# EAGLE library part 40_PINS_687340124422 (library WallerLabLib)
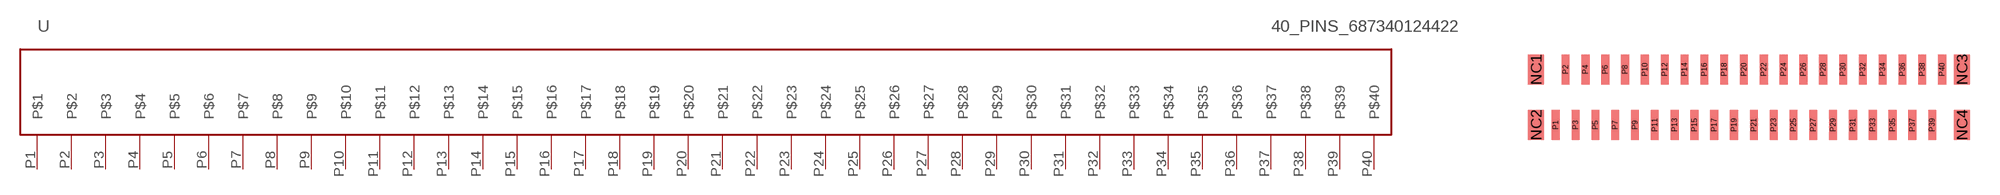
[diagram p13: symbol with the pads of 40PIN_FFC_687340124422; footprint 40PIN_FFC_687340124422]

Designator prefix -

## 40_PINS_687340124422V0  [40PIN_FFC_687340124422]
P1  P$1
P2  P$2
P3  P$3
P4  P$4
P5  P$5
P6  P$6
P7  P$7
P8  P$8
P9  P$9
P10  P$10
P11  P$11
P12  P$12
P13  P$13
P14  P$14
P15  P$15
P16  P$16
P17  P$17
P18  P$18
P19  P$19
P20  P$20
P21  P$21
P22  P$22
P23  P$23
P24  P$24
P25  P$25
P26  P$26
P27  P$27
P28  P$28
P29  P$29
P30  P$30
P31  P$31
P32  P$32
P33  P$33
P34  P$34
P35  P$35
P36  P$36
P37  P$37
P38  P$38
P39  P$39
P40  P$40

## Footprint 40PIN_FFC_687340124422 (pad centres in mm)
smd 0.8 x 1.5: NC1 -10.75,1.4; NC2 -10.75,-1.4; NC3 10.75,1.4; NC4 10.75,-1.4
smd 0.4 x 1.5: P1 -9.75,-1.4; P2 -9.25,1.4; P3 -8.75,-1.4; P4 -8.25,1.4; P5 -7.75,-1.4; P6 -7.25,1.4; P7 -6.75,-1.4; P8 -6.25,1.4; P9 -5.75,-1.4; P10 -5.25,1.4; P11 -4.75,-1.4; P12 -4.25,1.4; P13 -3.75,-1.4; P14 -3.25,1.4; P15 -2.75,-1.4; P16 -2.25,1.4; P17 -1.75,-1.4; P18 -1.25,1.4; P19 -0.75,-1.4; P20 -0.25,1.4; P21 0.25,-1.4; P22 0.75,1.4; P23 1.25,-1.4; P24 1.75,1.4; P25 2.25,-1.4; P26 2.75,1.4; P27 3.25,-1.4; P28 3.75,1.4; P29 4.25,-1.4; P30 4.75,1.4; P31 5.25,-1.4; P32 5.75,1.4; P33 6.25,-1.4; P34 6.75,1.4; P35 7.25,-1.4; P36 7.75,1.4; P37 8.25,-1.4; P38 8.75,1.4; P39 9.25,-1.4; P40 9.75,1.4